# EAGLE library part TPS25944LRVCR (library system-controller)
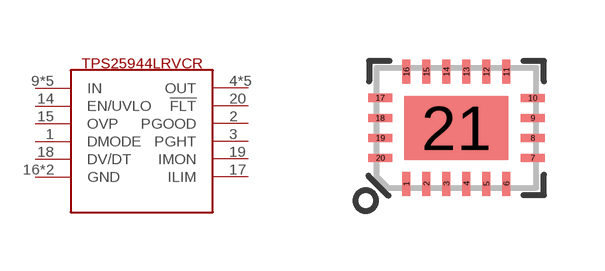
[diagram p1: symbol with the pads of QFN-20-L; footprint QFN-20-L]

Designator prefix SW

## TPS25944LRVCRWQFN-20-3X4  [QFN-20-L]
1  DMODE
2  PGOOD
3  PGHT
4  OUT
5  OUT
6  OUT
7  OUT
8  OUT
9  IN
10  IN
11  IN
12  IN
13  IN
14  EN/UVLO
15  OVP
16  GND  pwr
17  ILIM
18  DV/DT
19  IMON
20  !FLT
21  GND  pwr

## Footprint QFN-20-L (pad centres in mm)
smd 0.2 x 0.6: 1 -1.252,-1.395; 2 -0.752,-1.395; 3 -0.252,-1.395; 4 0.248,-1.395; 5 0.748,-1.395; 6 1.248,-1.395; 11 1.248,1.405; 12 0.748,1.405; 13 0.248,1.405; 14 -0.252,1.405; 15 -0.752,1.405; 16 -1.252,1.405
smd 0.6 x 0.2: 7 1.905,-0.748; 8 1.905,-0.248; 9 1.905,0.252; 10 1.905,0.752; 17 -1.908,0.755; 18 -1.91,0.25; 19 -1.905,-0.248; 20 -1.905,-0.748
smd 2.6 x 1.6: 21 0,0